# EAGLE library part PINHEAD-6 (library Header)
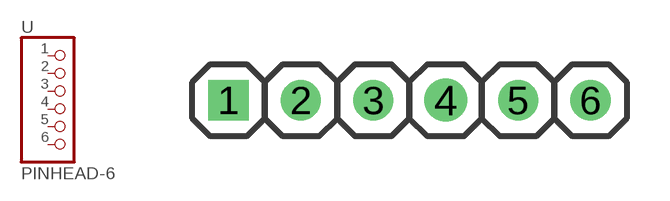
[diagram p0: symbol with the pads of PINHEAD-6; footprint PINHEAD-6]

Designator prefix -

## PINHEAD-6  [PINHEAD-6]
1  1  pas
2  2  pas
3  3  pas
4  4  pas
5  5  pas
6  6  pas

## Footprint PINHEAD-6 (pad centres in mm)
drill 0.9 square: 1 0,0
drill 0.9: 2 2.54,0; 3 5.08,0; 5 10.16,0; 6 12.7,0
drill 1: 4 7.62,0